# EAGLE library part TLE6250GV33 (library COM_ETH-V1)
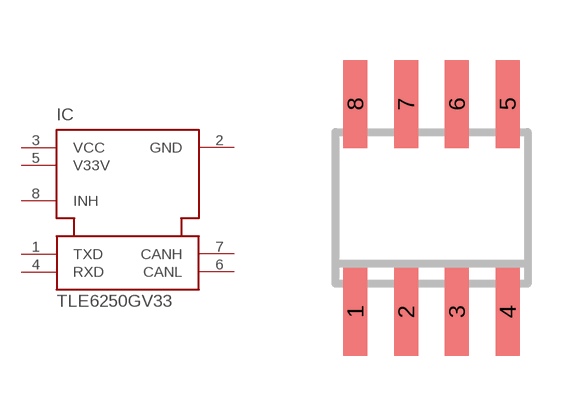
[diagram p4: symbol with the pads of SO08; footprint SO08]

Designator prefix IC

## TLE6250GV33  [SO08]
1  TXD
2  GND
3  VCC
4  RXD
5  V33V
6  CANL
7  CANH
8  INH

## Footprint SO08 (pad centres in mm)
SMALL OUTLINE INTEGRATED CIRCUIT body 3.9 mm/JEDEC MS-012AA
smd 0.6 x 2.2: 1 -1.905,-2.6; 2 -0.635,-2.6; 3 0.635,-2.6; 4 1.905,-2.6; 5 1.905,2.6; 6 0.635,2.6; 7 -0.635,2.6; 8 -1.905,2.6